# Altium schematic symbol library SCH - POWER - LINEAR VREG - TI LP38692NDC.SchLib: 1 symbol
Pins are listed as number, name and electrical type; pins without a type are passive.

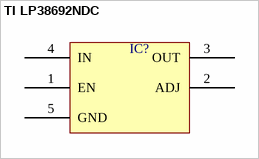
[diagram p0: symbol TI LP38692NDC]

## TI LP38692NDC
designator IC?  (value not drawn)
pins: 1 EN, 2 ADJ, 3 OUT, 4 IN, 5 GND